# Altium integrated library AD Logarithmic Amplifier.IntLib: 11 symbols
Pins are listed as number, name and electrical type; pins without a type are passive.

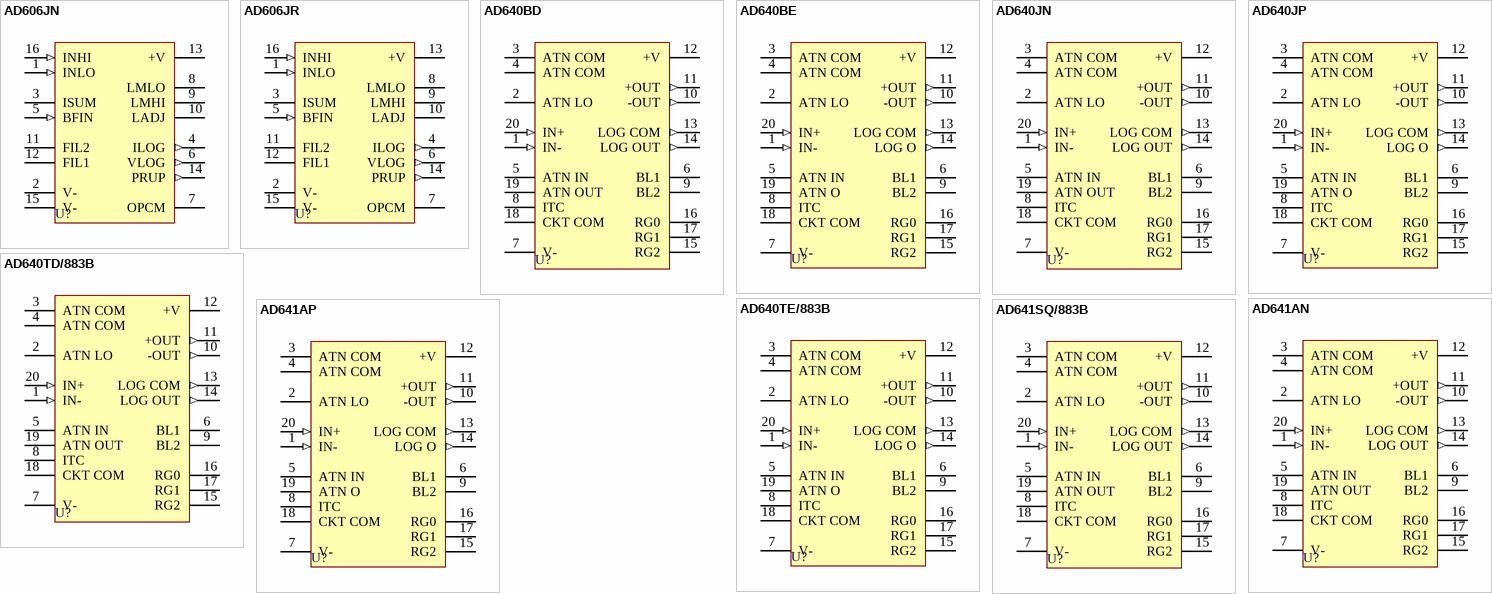
[diagram p0: symbols AD606JN to AD641SQ/883B]

## AD606JN
designator U?
50MHz, 80 dB Demodulating Logarithmic Amplifier with Limiter Output; Published: 8-Jun-2000; LatestRevisionDate: 04-Mar-2005; LatestRevisionNote: Stylized 3D Model Added.; DatasheetVersion: REV.0 1998; PackageVersion: revC; PackageReference: N-16_B; Publisher: Altium Limited; PackageDescription: DIP; 16 Leads; Row Spacing 7.62 mm; Pitch 2.54 mm; ComponentLink1Description: Manufacturer Link; ComponentLink1URL: http://www.analog.com/en/prod/0%2C2877%2CAD606%2C00.html; ComponentLink2Description: Datasheet; ComponentLink2URL: http://www.analog.com/UploadedFiles/Data_Sheets/764008146AD606_b.pdf
footprint N-16_B (DIP; 16 Leads; Row Spacing 7.62 mm; Pitch 2.54 mm)
3D model N16-B (DIP; 16 Leads; Row Spacing 7.62 mm; Pitch 2.54 mm)
pins: 1 INLO (in), 2 V- (power), 3 ISUM, 4 ILOG (out), 5 BFIN (in), 6 VLOG (out), 7 OPCM (power), 8 LMLO (oc), 9 LMHI (oc), 10 LADJ, 11 FIL2, 12 FIL1, 13 +V (power), 14 PRUP (out), 15 V- (power), 16 INHI (in)

## AD606JR
designator U?
50MHz, 80 dB Demodulating Logarithmic Amplifier with Limiter Output; Published: 8-Jun-2000; LatestRevisionDate: 13-Apr-2006; LatestRevisionNote: IPC-7351 Footprint Added.; DatasheetVersion: REV.0 1998; PackageReference: R-16A; Publisher: Altium Limited; PackageDescription: 16-Pin Small Outline Integrated Circuit 1.27 mm Pitch; Code_JEDEC: MS-012-AC; Code_IPC: SOIC127P600-16; ComponentLink1Description: Manufacturer Link; ComponentLink1URL: http://www.analog.com/en/prod/0%2C2877%2CAD606%2C00.html; ComponentLink2Description: Datasheet; ComponentLink2URL: http://www.analog.com/UploadedFiles/Data_Sheets/764008146AD606_b.pdf
footprint R-16A_N (SOIC, 16-Leads, Body 9.9x3.9mm, Pitch 1.27mm, IPC Medium Density)
footprint R-16A_L (SOIC, 16-Leads, Body 9.9x3.9mm, Pitch 1.27mm, IPC High Density)
footprint R-16A_M (SOIC, 16-Leads, Body 9.9x3.9mm, Pitch 1.27mm, IPC Low Density)
3D model R-16A (16-Pin Small Outline Integrated Circuit 1.27 mm Pitch)
pins: 1 INLO (in), 2 V- (power), 3 ISUM, 4 ILOG (out), 5 BFIN (in), 6 VLOG (out), 7 OPCM (power), 8 LMLO (oc), 9 LMHI (oc), 10 LADJ, 11 FIL2, 12 FIL1, 13 +V (power), 14 PRUP (out), 15 V- (power), 16 INHI (in)

## AD640BD
designator U?
DC Coupled Demodulating 120MHz Logarithmic Amplifier; Published: 8-Jun-2000; LatestRevisionDate: 04-Mar-2005; LatestRevisionNote: Stylized 3D Model Added.; DatasheetVersion: REV.A 1995; PackageReference: D-20; Publisher: Altium Limited; PackageDescription: DIP; 20 Leads; Row Spacing 7.62 mm; Pitch 2.54 mm; Code_JEDEC: MS-015-AE; ComponentLink1Description: Manufacturer Link; ComponentLink1URL: http://www.analog.com/en/prod/0%2C2877%2CAD640%2C00.html; ComponentLink2Description: Datasheet; ComponentLink2URL: http://www.analog.com/UploadedFiles/Data_Sheets/301293016AD640_c.pdf
footprint D-20 (DIP; 20 Leads; Row Spacing 7.62 mm; Pitch 2.54 mm)
3D model D20 (DIP; 20 Leads; Row Spacing 7.62 mm; Pitch 2.54 mm)
pins: 1 IN- (in), 2 ATN LO, 3 ATN COM, 4 ATN COM, 5 ATN IN, 6 BL1, 7 V- (power), 8 ITC, 9 BL2, 10 -OUT (out), 11 +OUT (out), 12 +V (power), 13 LOG COM (out), 14 LOG OUT (out), 15 RG2, 16 RG0, 17 RG1, 18 CKT COM, 19 ATN OUT, 20 IN+ (in)

## AD640BE
designator U?
DC Coupled Demodulating 120MHz Logarithmic Amplifier; Published: 8-Jun-2000; LatestRevisionDate: 17-Jul-2002; LatestRevisionNote: Re-released for DXP Platform.; DatasheetVersion: REV.A 1995; PackageReference: E-20A; Publisher: Altium Limited; PackageDescription: Leadless Chip Carrier; 20 Terminals; Body 8.9 x 8.9 mm; ComponentLink1Description: Manufacturer Link; ComponentLink1URL: http://www.analog.com/en/prod/0%2C2877%2CAD640%2C00.html; ComponentLink2Description: Datasheet; ComponentLink2URL: http://www.analog.com/UploadedFiles/Data_Sheets/301293016AD640_c.pdf
footprint E-20A (Leadless Chip Carrier; 20 Terminals; Body 8.9 x 8.9 mm)
pins: 1 IN- (in), 2 ATN LO, 3 ATN COM, 4 ATN COM, 5 ATN IN, 6 BL1, 7 V- (power), 8 ITC, 9 BL2, 10 -OUT (out), 11 +OUT (out), 12 +V (power), 13 LOG COM (out), 14 LOG O (out), 15 RG2, 16 RG0, 17 RG1, 18 CKT COM, 19 ATN O, 20 IN+ (in)

## AD640JN
designator U?
DC Coupled Demodulating 120MHz Logarithmic Amplifier; Published: 8-Jun-2000; LatestRevisionDate: 04-Mar-2005; LatestRevisionNote: Stylized 3D Model Added.; DatasheetVersion: REV.A 1995; PackageReference: N-20; Publisher: Altium Limited; PackageDescription: DIP; 20 Leads; Row Spacing 7.62 mm; Pitch 2.54 mm; Code_JEDEC: MS-001-AD; ComponentLink1Description: Manufacturer Link; ComponentLink1URL: http://www.analog.com/en/prod/0%2C2877%2CAD640%2C00.html; ComponentLink2Description: Datasheet; ComponentLink2URL: http://www.analog.com/UploadedFiles/Data_Sheets/301293016AD640_c.pdf
footprint N-20 (DIP; 20 Leads; Row Spacing 7.62 mm; Pitch 2.54 mm)
3D model N20 (DIP; 20 Leads; Row Spacing 7.62 mm; Pitch 2.54 mm)
pins: 1 IN- (in), 2 ATN LO, 3 ATN COM, 4 ATN COM, 5 ATN IN, 6 BL1, 7 V- (power), 8 ITC, 9 BL2, 10 -OUT (out), 11 +OUT (out), 12 +V (power), 13 LOG COM (out), 14 LOG OUT (out), 15 RG2, 16 RG0, 17 RG1, 18 CKT COM, 19 ATN OUT, 20 IN+ (in)

## AD640JP
designator U?
DC Coupled Demodulating 120MHz Logarithmic Amplifier; Published: 8-Jun-2000; LatestRevisionDate: 13-Apr-2006; LatestRevisionNote: IPC-7351 Footprint Added.; DatasheetVersion: REV.A 1995; PackageVersion: revB, 1995; PackageReference: P-20A; Publisher: Altium Limited; PackageDescription: 20-Pin Leaded Chip Carrier 1.27 mm Pitch; Code_IPC: PLCC-20; ComponentLink1Description: Manufacturer Link; ComponentLink1URL: http://www.analog.com/en/prod/0%2C2877%2CAD640%2C00.html; ComponentLink2Description: Datasheet; ComponentLink2URL: http://www.analog.com/UploadedFiles/Data_Sheets/301293016AD640_c.pdf
footprint P-20A_N (Leaded Chip Carrier, 20-Leads, Body 9x9mm, Pitch 1.27mm, IPC Medium Density)
footprint P-20A_L (Leaded Chip Carrier, 20-Leads, Body 9x9mm, Pitch 1.27mm, IPC High Density)
footprint P-20A_M (Leaded Chip Carrier, 20-Leads, Body 9x9mm, Pitch 1.27mm, IPC Low Density)
3D model AD640-P20A (20-Pin Leaded Chip Carrier 1.27 mm Pitch)
pins: 1 IN- (in), 2 ATN LO, 3 ATN COM, 4 ATN COM, 5 ATN IN, 6 BL1, 7 V- (power), 8 ITC, 9 BL2, 10 -OUT (out), 11 +OUT (out), 12 +V (power), 13 LOG COM (out), 14 LOG O (out), 15 RG2, 16 RG0, 17 RG1, 18 CKT COM, 19 ATN O, 20 IN+ (in)

## AD640TD/883B
designator U?
DC Coupled Demodulating 120MHz Logarithmic Amplifier; Published: 8-Jun-2000; LatestRevisionDate: 04-Mar-2005; LatestRevisionNote: Stylized 3D Model Added.; DatasheetVersion: REV.A 1995; PackageReference: D-20; Publisher: Altium Limited; PackageDescription: DIP; 20 Leads; Row Spacing 7.62 mm; Pitch 2.54 mm; Code_JEDEC: MS-015-AE; ComponentLink1Description: Manufacturer Link; ComponentLink1URL: http://www.analog.com/en/prod/0%2C2877%2CAD640%2C00.html; ComponentLink2Description: Datasheet; ComponentLink2URL: http://www.analog.com/UploadedFiles/Data_Sheets/301293016AD640_c.pdf
footprint D-20 (DIP; 20 Leads; Row Spacing 7.62 mm; Pitch 2.54 mm)
3D model D20 (DIP; 20 Leads; Row Spacing 7.62 mm; Pitch 2.54 mm)
pins: 1 IN- (in), 2 ATN LO, 3 ATN COM, 4 ATN COM, 5 ATN IN, 6 BL1, 7 V- (power), 8 ITC, 9 BL2, 10 -OUT (out), 11 +OUT (out), 12 +V (power), 13 LOG COM (out), 14 LOG OUT (out), 15 RG2, 16 RG0, 17 RG1, 18 CKT COM, 19 ATN OUT, 20 IN+ (in)

## AD640TE/883B
designator U?
DC Coupled Demodulating 120MHz Logarithmic Amplifier; Published: 8-Jun-2000; LatestRevisionDate: 17-Jul-2002; LatestRevisionNote: Re-released for DXP Platform.; DatasheetVersion: REV.A 1995; PackageReference: E-20A; Publisher: Altium Limited; PackageDescription: Leadless Chip Carrier; 20 Terminals; Body 8.9 x 8.9 mm; ComponentLink1Description: Manufacturer Link; ComponentLink1URL: http://www.analog.com/en/prod/0%2C2877%2CAD640%2C00.html; ComponentLink2Description: Datasheet; ComponentLink2URL: http://www.analog.com/UploadedFiles/Data_Sheets/301293016AD640_c.pdf
footprint E-20A (Leadless Chip Carrier; 20 Terminals; Body 8.9 x 8.9 mm)
pins: 1 IN- (in), 2 ATN LO, 3 ATN COM, 4 ATN COM, 5 ATN IN, 6 BL1, 7 V- (power), 8 ITC, 9 BL2, 10 -OUT (out), 11 +OUT (out), 12 +V (power), 13 LOG COM (out), 14 LOG O (out), 15 RG2, 16 RG0, 17 RG1, 18 CKT COM, 19 ATN O, 20 IN+ (in)

## AD641AN
designator U?
250MHz Demodulating Logarithmic Amplifier; Published: 8-Jun-2000; LatestRevisionDate: 04-Mar-2005; LatestRevisionNote: Stylized 3D Model Added.; DatasheetVersion: REV.A 1995; PackageReference: N-20; Publisher: Altium Limited; PackageDescription: DIP; 20 Leads; Row Spacing 7.62 mm; Pitch 2.54 mm; Code_JEDEC: MS-001-AD; ComponentLink1Description: Manufacturer Link; ComponentLink1URL: http://www.analog.com/en/prod/0%2C2877%2CAD641%2C00.html; ComponentLink2Description: Datasheet; ComponentLink2URL: http://www.analog.com/UploadedFiles/Data_Sheets/249926621AD641_c.pdf
footprint N-20 (DIP; 20 Leads; Row Spacing 7.62 mm; Pitch 2.54 mm)
3D model N20 (DIP; 20 Leads; Row Spacing 7.62 mm; Pitch 2.54 mm)
pins: 1 IN- (in), 2 ATN LO, 3 ATN COM, 4 ATN COM, 5 ATN IN, 6 BL1, 7 V- (power), 8 ITC, 9 BL2, 10 -OUT (out), 11 +OUT (out), 12 +V (power), 13 LOG COM (out), 14 LOG OUT (out), 15 RG2, 16 RG0, 17 RG1, 18 CKT COM, 19 ATN OUT, 20 IN+ (in)

## AD641AP
designator U?
250MHz Demodulating Logarithmic Amplifier; Published: 8-Jun-2000; LatestRevisionDate: 13-Apr-2006; LatestRevisionNote: IPC-7351 Footprint Added.; DatasheetVersion: REV.A 1995; PackageVersion: revB, 1995; PackageReference: P-20A; Publisher: Altium Limited; PackageDescription: 20-Pin Leaded Chip Carrier 1.27 mm Pitch; Code_IPC: PLCC-20; ComponentLink1Description: Manufacturer Link; ComponentLink1URL: http://www.analog.com/en/prod/0%2C2877%2CAD641%2C00.html; ComponentLink2Description: Datasheet; ComponentLink2URL: http://www.analog.com/UploadedFiles/Data_Sheets/249926621AD641_c.pdf
footprint P-20A_N (Leaded Chip Carrier, 20-Leads, Body 9x9mm, Pitch 1.27mm, IPC Medium Density)
footprint P-20A_L (Leaded Chip Carrier, 20-Leads, Body 9x9mm, Pitch 1.27mm, IPC High Density)
footprint P-20A_M (Leaded Chip Carrier, 20-Leads, Body 9x9mm, Pitch 1.27mm, IPC Low Density)
3D model AD641-P20A (20-Pin Leaded Chip Carrier 1.27 mm Pitch)
pins: 1 IN- (in), 2 ATN LO, 3 ATN COM, 4 ATN COM, 5 ATN IN, 6 BL1, 7 V- (power), 8 ITC, 9 BL2, 10 -OUT (out), 11 +OUT (out), 12 +V (power), 13 LOG COM (out), 14 LOG O (out), 15 RG2, 16 RG0, 17 RG1, 18 CKT COM, 19 ATN O, 20 IN+ (in)

## AD641SQ/883B
designator U?
250MHz Demodulating Logarithmic Amplifier; Published: 8-Jun-2000; LatestRevisionDate: 04-Mar-2005; LatestRevisionNote: Stylized 3D Model Added.; DatasheetVersion: REV.O 1995; PackageReference: Q-20; Publisher: Altium Limited; PackageDescription: DIP; 20 Leads; Row Spacing 7.62 mm; Pitch 2.54 mm; ComponentLink1Description: Manufacturer Link; ComponentLink1URL: http://www.analog.com/en/prod/0%2C2877%2CAD641%2C00.html; ComponentLink2Description: Datasheet; ComponentLink2URL: http://www.analog.com/UploadedFiles/Data_Sheets/249926621AD641_c.pdf
footprint Q-20 (DIP; 20 Leads; Row Spacing 7.62 mm; Pitch 2.54 mm)
3D model Q20 (DIP; 20 Leads; Row Spacing 7.62 mm; Pitch 2.54 mm)
pins: 1 IN- (in), 2 ATN LO, 3 ATN COM, 4 ATN COM, 5 ATN IN, 6 BL1, 7 V- (power), 8 ITC, 9 BL2, 10 -OUT (out), 11 +OUT (out), 12 +V (power), 13 LOG COM (out), 14 LOG OUT (out), 15 RG2, 16 RG0, 17 RG1, 18 CKT COM, 19 ATN OUT, 20 IN+ (in)